# EAGLE library part TPS63024 (library Eagle_CAD_parts)
Features Real Buck or Boost operation with automatic and seamless transition between Buck and Boost operation 2.3V to 5.5V input voltage range 2A (TPS63025X) or 1.5A (TPS63024X) Continuous Output Current: VIN≥2.5V,VOUT= 3.3V Adjustable and fixed outputvoltage Efficiency up to 95%in Buckor Boost mode and up to 97%when VIN=VOUT 2.5MHztypical switching frequency 35μA operating quiescent current Integrated Soft –Start Power Save Mode True shutdown function Output capacitor discharge function Over-Temperature Protection and Overcurrent Protection Wide capacitance selection Small1.766mm x 2.086mm, 20-pinWCSP
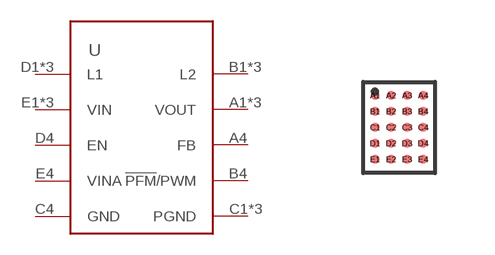
[diagram p89: symbol with the pads of 20-DSBGA; footprint 20-DSBGA]

Designator prefix U

## TPS63024YFFT (DIGIKEY_PART_NUMBER: 296-40855-1-ND; MANUFACTURER_PART_NUMBER: TPS63024YFFT; VOUT: 2.5V ~ 3.6V)  [20-DSBGA]
A1  VOUT
A2  VOUT
A3  VOUT
A4  FB
B1  L2
B2  L2
B3  L2
B4  !PFM!/PWM
C1  PGND
C2  PGND
C3  PGND
C4  GND
D1  L1
D2  L1
D3  L1
D4  EN
E1  VIN
E2  VIN
E3  VIN
E4  VINA

## TPS630241YFFT (DIGIKEY_PART_NUMBER: 296-40853-1-ND; MANUFACTURER_PART_NUMBER: TPS630241YFFT; VOUT: 2.9V (Fix))  [20-DSBGA]
Pads as for 20-DSBGA

## TPS630242YFFT (DIGIKEY_PART_NUMBER: 296-40854-1-ND; MANUFACTURER_PART_NUMBER: TPS630242YFFT; VOUT: 3.3V (Fix))  [20-DSBGA]
Pads as for 20-DSBGA

## Footprint 20-DSBGA (pad centres in mm)
smd 0.23 x 0.23: A1 -0.6,0.8; A2 -0.2,0.8; A3 0.2,0.8; A4 0.6,0.8; B1 -0.6,0.4; B2 -0.2,0.4; B3 0.2,0.4; B4 0.6,0.4; C1 -0.6,0; C2 -0.2,0; C3 0.2,0; C4 0.6,0; D1 -0.6,-0.4; D2 -0.2,-0.4; D3 0.2,-0.4; D4 0.6,-0.4; E1 -0.6,-0.8; E2 -0.2,-0.8; E3 0.2,-0.8; E4 0.6,-0.8